# EAGLE library part ECOSTDRIBBON2X7 (library Shell2013 (1))
Standard EcoCar 2x7 Ribbon Cable header, with standard voltage pinouts.
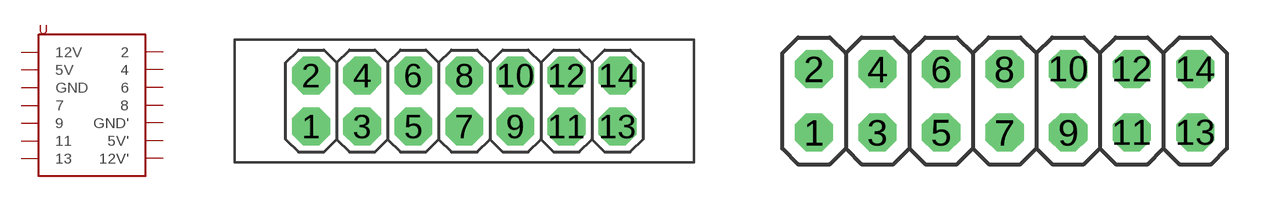
[diagram p4: symbol with the pads of 2X7; footprints 2X7, 2X07]

Designator prefix -

## ECOSTDRIBBON2X7  [2X7]
1  12V
2  2
3  5V
4  4
5  GND
6  6
7  7
8  8
9  9
10  GND'
11  11
12  5V'
13  13
14  12V'

## ECOSTDRIBBON2X7SMALLFORM  [2X07]
Pads as for 2X7

## Footprint 2X7 (pad centres in mm)
drill 1.016 pad 1.88 octagon: 1 0,0; 2 0,2.54; 3 2.54,0; 4 2.54,2.54; 5 5.08,0; 6 5.08,2.54; 7 7.62,0; 8 7.62,2.54; 9 10.16,0; 10 10.16,2.54; 11 12.7,0; 12 12.7,2.54; 13 15.24,0; 14 15.24,2.54

## Footprint 2X07 (pad centres in mm)
PIN HEADER
drill 1.016 octagon: 1 -7.62,-1.27; 2 -7.62,1.27; 3 -5.08,-1.27; 4 -5.08,1.27; 5 -2.54,-1.27; 6 -2.54,1.27; 7 0,-1.27; 8 0,1.27; 9 2.54,-1.27; 10 2.54,1.27; 11 5.08,-1.27; 12 5.08,1.27; 13 7.62,-1.27; 14 7.62,1.27